# Altium schematic symbol library SCH - ARM Cortex - NXP K32L2B11VMP0A.SchLib: 1 symbol
Pins are listed as number, name and electrical type; pins without a type are passive.

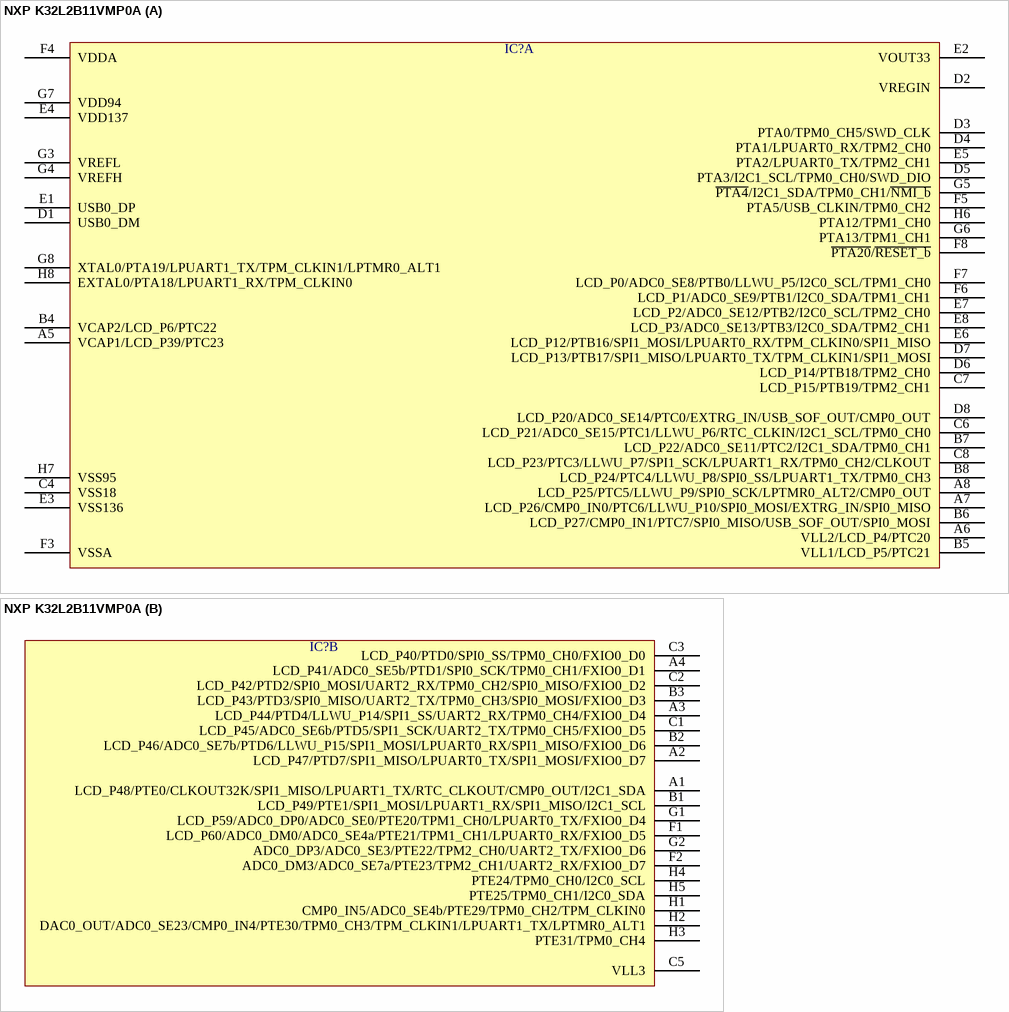
[diagram p0: symbol NXP K32L2B11VMP0A]

## NXP K32L2B11VMP0A
designator IC?  (value not drawn)
part A pins: A5 VCAP1/LCD_P39/PTC23, A6 VLL2/LCD_P4/PTC20, A7 LCD_P26/CMP0_IN0/PTC6/LLWU_P10/SPI0_MOSI/EXTRG_IN/SPI0_MISO, A8 LCD_P25/PTC5/LLWU_P9/SPI0_SCK/LPTMR0_ALT2/CMP0_OUT, B4 VCAP2/LCD_P6/PTC22, B5 VLL1/LCD_P5/PTC21, B6 LCD_P27/CMP0_IN1/PTC7/SPI0_MISO/USB_SOF_OUT/SPI0_MOSI, B7 LCD_P22/ADC0_SE11/PTC2/I2C1_SDA/TPM0_CH1, B8 LCD_P24/PTC4/LLWU_P8/SPI0_SS/LPUART1_TX/TPM0_CH3, C4 VSS18, C6 LCD_P21/ADC0_SE15/PTC1/LLWU_P6/RTC_CLKIN/I2C1_SCL/TPM0_CH0, C7 LCD_P15/PTB19/TPM2_CH1, C8 LCD_P23/PTC3/LLWU_P7/SPI1_SCK/LPUART1_RX/TPM0_CH2/CLKOUT, D1 USB0_DM, D2 VREGIN, D3 PTA0/TPM0_CH5/SWD_CLK, D4 PTA1/LPUART0_RX/TPM2_CH0, D5 PTA3/I2C1_SCL/TPM0_CH0/SWD_DIO, D6 LCD_P14/PTB18/TPM2_CH0, D7 LCD_P13/PTB17/SPI1_MISO/LPUART0_TX/TPM_CLKIN1/SPI1_MOSI, D8 LCD_P20/ADC0_SE14/PTC0/EXTRG_IN/USB_SOF_OUT/CMP0_OUT, E1 USB0_DP, E2 VOUT33, E3 VSS136, E4 VDD137, E5 PTA2/LPUART0_TX/TPM2_CH1, E6 LCD_P12/PTB16/SPI1_MOSI/LPUART0_RX/TPM_CLKIN0/SPI1_MISO, E7 LCD_P2/ADC0_SE12/PTB2/I2C0_SCL/TPM2_CH0, E8 LCD_P3/ADC0_SE13/PTB3/I2C0_SDA/TPM2_CH1, F3 VSSA, F4 VDDA, F5 PTA5/USB_CLKIN/TPM0_CH2, F6 LCD_P1/ADC0_SE9/PTB1/I2C0_SDA/TPM1_CH1, F7 LCD_P0/ADC0_SE8/PTB0/LLWU_P5/I2C0_SCL/TPM1_CH0, F8 ~{PTA20}/~{RESET_b}, G3 VREFL, G4 VREFH, G5 ~{PTA4}/I2C1_SDA/TPM0_CH1/~{NMI_b}, G6 PTA13/TPM1_CH1, G7 VDD94, G8 XTAL0/PTA19/LPUART1_TX/TPM_CLKIN1/LPTMR0_ALT1, H6 PTA12/TPM1_CH0, H7 VSS95, H8 EXTAL0/PTA18/LPUART1_RX/TPM_CLKIN0
part B pins: A1 LCD_P48/PTE0/CLKOUT32K/SPI1_MISO/LPUART1_TX/RTC_CLKOUT/CMP0_OUT/I2C1_SDA, A2 LCD_P47/PTD7/SPI1_MISO/LPUART0_TX/SPI1_MOSI/FXIO0_D7, A3 LCD_P44/PTD4/LLWU_P14/SPI1_SS/UART2_RX/TPM0_CH4/FXIO0_D4, A4 LCD_P41/ADC0_SE5b/PTD1/SPI0_SCK/TPM0_CH1/FXIO0_D1, B1 LCD_P49/PTE1/SPI1_MOSI/LPUART1_RX/SPI1_MISO/I2C1_SCL, B2 LCD_P46/ADC0_SE7b/PTD6/LLWU_P15/SPI1_MOSI/LPUART0_RX/SPI1_MISO/FXIO0_D6, B3 LCD_P43/PTD3/SPI0_MISO/UART2_TX/TPM0_CH3/SPI0_MOSI/FXIO0_D3, C1 LCD_P45/ADC0_SE6b/PTD5/SPI1_SCK/UART2_TX/TPM0_CH5/FXIO0_D5, C2 LCD_P42/PTD2/SPI0_MOSI/UART2_RX/TPM0_CH2/SPI0_MISO/FXIO0_D2, C3 LCD_P40/PTD0/SPI0_SS/TPM0_CH0/FXIO0_D0, C5 VLL3, F1 LCD_P60/ADC0_DM0/ADC0_SE4a/PTE21/TPM1_CH1/LPUART0_RX/FXIO0_D5, F2 ADC0_DM3/ADC0_SE7a/PTE23/TPM2_CH1/UART2_RX/FXIO0_D7, G1 LCD_P59/ADC0_DP0/ADC0_SE0/PTE20/TPM1_CH0/LPUART0_TX/FXIO0_D4, G2 ADC0_DP3/ADC0_SE3/PTE22/TPM2_CH0/UART2_TX/FXIO0_D6, H1 CMP0_IN5/ADC0_SE4b/PTE29/TPM0_CH2/TPM_CLKIN0, H2 DAC0_OUT/ADC0_SE23/CMP0_IN4/PTE30/TPM0_CH3/TPM_CLKIN1/LPUART1_TX/LPTMR0_ALT1, H3 PTE31/TPM0_CH4, H4 PTE24/TPM0_CH0/I2C0_SCL, H5 PTE25/TPM0_CH1/I2C0_SDA